# EAGLE library part 749013010 (library 000001)
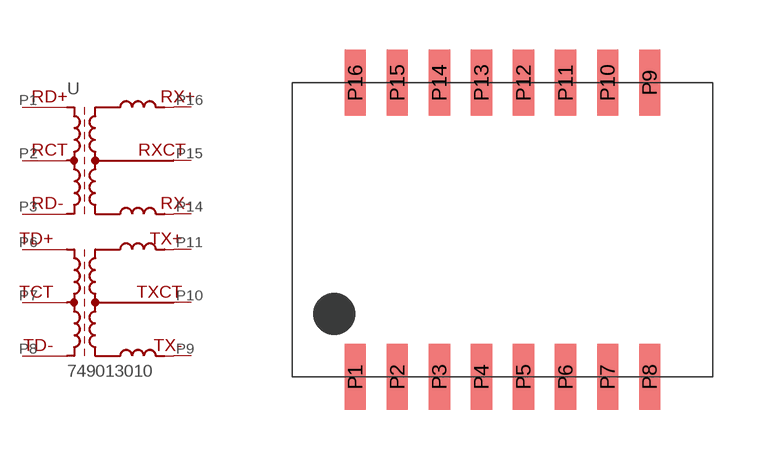
[diagram p103: symbol with the pads of 749013010; footprint 749013010]

Designator prefix -

## 749013010  [749013010]
P1  RD+  pas
P2  RCT  pas
P3  RD-  pas
P6  TD+  pas
P7  TCT  pas
P8  TD-  pas
P9  TX-  pas
P10  TXCT  pas
P11  TX+  pas
P14  RX-  pas
P15  RXCT  pas
P16  RX+  pas

## Footprint 749013010 (pad centres in mm)
smd 0.64 x 2: P1 -4.445,-4.445; P2 -3.175,-4.445; P3 -1.905,-4.445; P4 -0.635,-4.445; P5 0.635,-4.445; P6 1.905,-4.445; P7 3.175,-4.445; P8 4.445,-4.445; P9 4.445,4.445; P10 3.175,4.445; P11 1.905,4.445; P12 0.635,4.445; P13 -0.635,4.445; P14 -1.905,4.445; P15 -3.175,4.445; P16 -4.445,4.445